# Altium footprint library Unified Transistors.PcbLib: 3 footprints
Each footprint in its own frame and in the unit in brackets; x right, y up, seen from the top. Pads: shape width x height; smd on the part's side, far side on the other; paste and mask are expansions set on the pad; w line width, h text height; cw(c..) or ccw(c..) is an arc to the next point about the centre after c.
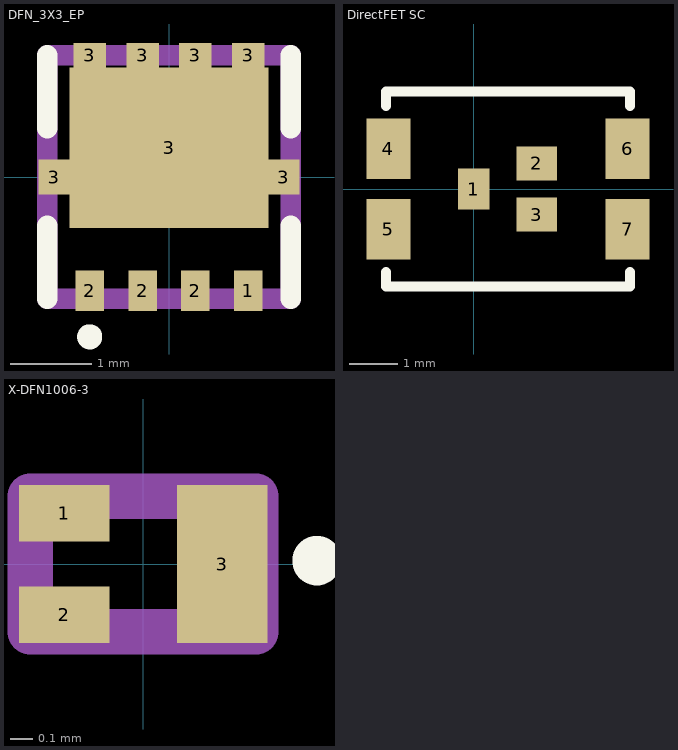
[diagram p0: the footprints below, top view; thin cyan lines are the x and y axes]

## DFN_3X3_EP [mm]
pads (11):
  rect 0.35x0.5 smd: 1(0.975,-1.4) 2(-0.975,-1.4) 2(-0.325,-1.4) 2(0.325,-1.4)
  rect 0.38x0.43 smd: 3(-1.415,0) 3(1.415,0)
  rect 0.4x0.3 smd: 3(-0.975,1.5) 3(-0.325,1.5) 3(0.325,1.5) 3(0.975,1.5)
  rect 2.45x1.98 smd: 3(0,0.36)
Top Overlay:
  circle w0.254: c-0.976,-1.967 r0.027
  lines w0.254: -1.5,-1.5 -1.5,-0.6 ; -1.5,0.6 -1.5,1.5 ; 1.5,-1.5 1.5,-0.6 ; 1.5,0.6 1.5,1.5
Top Assembly:
  lines w0.254: -1.5,-1.5 -1.5,1.5 1.5,1.5 1.5,-1.5 -1.5,-1.5
3D body "AON7403.stp": height 0.9, standoff 0, extent -1.55,-1.6 1.55,1.6

## DirectFET SC [mm]
pads (7):
  rect 0.65x0.85 smd: 1(0,0)
  rect 0.83x0.7 smd: 2(1.29,0.525) 3(1.29,-0.525)
  rect 0.9x1.25 smd: 4(-1.75,0.825) 5(-1.75,-0.825) 6(3.15,0.825) 7(3.15,-0.825)
Top Overlay:
  lines w0.2: -1.8,-1.7 -1.8,-2 3.2,-2 3.2,-1.7 ; -1.8,1.7 -1.8,2 3.2,2 3.2,1.7
3D body "Directfet SC.STEP": height 0.71, standoff 0, extent -1.7,-1.89 3.1,1.89

## X-DFN1006-3 [mm]
pads (3):
  rect 0.4x0.25 smd mask+0.075: 1(-0.35,0.225) 2(-0.35,-0.225)
  rect 0.4x0.7 smd mask+0.075: 3(0.35,0)
Top Overlay:
  circle w0.2: c0.77,0.015 r0.009
Top Assembly:
  lines w0.2: -0.5,-0.3 -0.5,0.3 0.5,0.3 0.5,-0.3 -0.5,-0.3
3D body "BC846BLP4-7B.stp": height 0.4, standoff 0, extent -0.5,-0.3 0.5,0.3